# EAGLE library part A4983 (library salvador-parts-imported)
DMOS Microstepping Driver with Translator
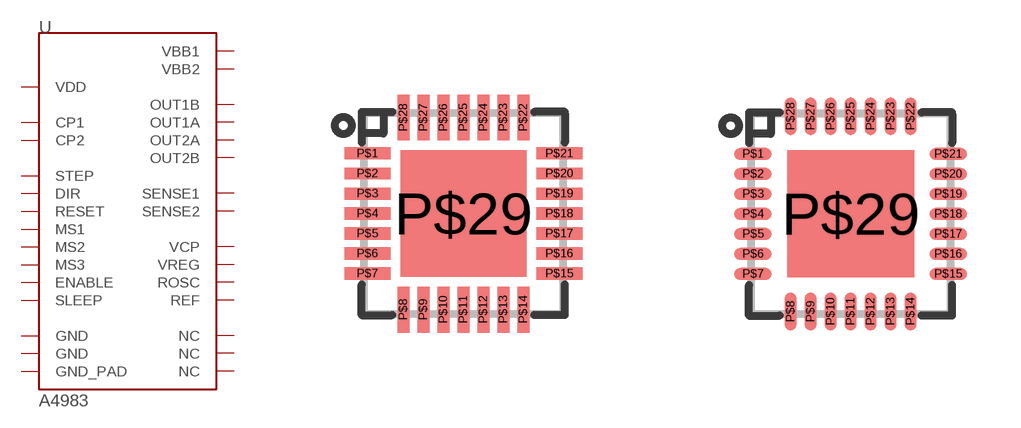
[diagram p43: symbol with the pads of QFN-28-5MM; footprints QFN-28-5MM, QFN-28-5MM_ALT1]

Designator prefix U

## A49835MM  [QFN-28-5MM]
P$1  OUT2B
P$2  ENABLE  in
P$3  GND  pwr
P$4  CP1
P$5  CP2
P$6  VCP
P$7  NC  nc
P$8  VREG
P$9  MS1  in
P$10  MS2  in
P$11  MS3  in
P$12  RESET  in
P$13  ROSC
P$14  SLEEP  in
P$15  VDD  pwr
P$16  STEP  in
P$17  REF
P$18  GND  pwr
P$19  DIR  in
P$20  NC  nc
P$21  OUT1B
P$22  VBB1
P$23  SENSE1
P$24  OUT1A
P$25  NC  nc
P$26  OUT2A
P$27  SENSE2
P$28  VBB2
P$29  GND_PAD  pwr

## A4983ALT1 (PROD_ID: IC-09890)  [QFN-28-5MM_ALT1]
Pads as for QFN-28-5MM

## A4983ALT2  [QFN-28-5MM_ALT2]
Pads as for QFN-28-5MM

## A49831:1  [QFN-28-5MM-1:1]
Pads as for QFN-28-5MM

## A4983ALT1_REDUCED_PASTE (PROD_ID: IC-09890)  [QFN-28-5MM_ALT1_REDUCED_PASTE]
Pads as for QFN-28-5MM

## Footprint QFN-28-5MM (pad centres in mm)
smd 1.15 x 0.3: P$1 -2.4,1.5; P$2 -2.4,1; P$3 -2.4,0.5; P$4 -2.4,0; P$5 -2.4,-0.5; P$6 -2.4,-1; P$7 -2.4,-1.5; P$15 2.4,-1.5; P$16 2.4,-1; P$17 2.4,-0.5; P$18 2.4,0; P$19 2.4,0.5; P$20 2.4,1; P$21 2.4,1.5
smd 0.3 x 1.15: P$8 -1.5,-2.4; P$9 -1,-2.4; P$10 -0.5,-2.4; P$11 0,-2.4; P$12 0.5,-2.4; P$13 1,-2.4; P$14 1.5,-2.4; P$22 1.5,2.4; P$23 1,2.4; P$24 0.5,2.4; P$25 0,2.4; P$26 -0.5,2.4; P$27 -1,2.4; P$28 -1.5,2.4
smd 3.15 x 3.15: P$29 0,0

## Footprint QFN-28-5MM_ALT1 (pad centres in mm)
smd 0.94 x 0.3: P$1 -2.44,1.5; P$2 -2.44,1; P$3 -2.44,0.5; P$4 -2.44,0; P$5 -2.44,-0.5; P$6 -2.44,-1; P$7 -2.44,-1.5; P$15 2.44,-1.5; P$16 2.44,-1; P$17 2.44,-0.5; P$18 2.44,0; P$19 2.44,0.5; P$20 2.44,1; P$21 2.44,1.5
smd 0.3 x 0.94: P$8 -1.5,-2.44; P$9 -1,-2.44; P$10 -0.5,-2.44; P$11 0,-2.44; P$12 0.5,-2.44; P$13 1,-2.44; P$14 1.5,-2.44; P$22 1.5,2.44; P$23 1,2.44; P$24 0.5,2.44; P$25 0,2.44; P$26 -0.5,2.44; P$27 -1,2.44; P$28 -1.5,2.44
smd 3.175 x 3.175: P$29 0,0

## Footprint QFN-28-5MM_ALT2 (pad centres in mm)
smd 0.889 x 0.28: P$1 -2.401,1.5; P$2 -2.401,1; P$3 -2.401,0.5; P$4 -2.401,0; P$5 -2.401,-0.5; P$6 -2.401,-1; P$7 -2.401,-1.5; P$15 2.401,-1.5; P$16 2.401,-1; P$17 2.401,-0.5; P$18 2.401,0; P$19 2.401,0.5; P$20 2.401,1; P$21 2.401,1.5
smd 0.28 x 0.889: P$8 -1.5,-2.401; P$9 -1,-2.401; P$10 -0.5,-2.401; P$11 0,-2.401; P$12 0.5,-2.401; P$13 1,-2.401; P$14 1.5,-2.401; P$22 1.5,2.401; P$23 1,2.401; P$24 0.5,2.401; P$25 0,2.401; P$26 -0.5,2.401; P$27 -1,2.401; P$28 -1.5,2.401
smd 3.048 x 3.048: P$29 0,0

## Footprint QFN-28-5MM-1:1 (pad centres in mm)
smd 1.15 x 0.3: P$1 -2.527,1.5; P$2 -2.527,1; P$3 -2.527,0.5; P$4 -2.527,0; P$5 -2.527,-0.5; P$6 -2.527,-1; P$7 -2.527,-1.5; P$15 2.527,-1.5; P$16 2.527,-1; P$17 2.527,-0.5; P$18 2.527,0; P$19 2.527,0.5; P$20 2.527,1; P$21 2.527,1.5
smd 0.3 x 1.15: P$8 -1.5,-2.527; P$9 -1,-2.527; P$10 -0.5,-2.527; P$11 0,-2.527; P$12 0.5,-2.527; P$13 1,-2.527; P$14 1.5,-2.527; P$22 1.5,2.527; P$23 1,2.527; P$24 0.5,2.527; P$25 0,2.527; P$26 -0.5,2.527; P$27 -1,2.527; P$28 -1.5,2.527
smd 3.15 x 3.15: P$29 0,0

## Footprint QFN-28-5MM_ALT1_REDUCED_PASTE (pad centres in mm)
smd 0.94 x 0.3: P$1 -2.44,1.5; P$2 -2.44,1; P$3 -2.44,0.5; P$4 -2.44,0; P$5 -2.44,-0.5; P$6 -2.44,-1; P$7 -2.44,-1.5; P$15 2.44,-1.5; P$16 2.44,-1; P$17 2.44,-0.5; P$18 2.44,0; P$19 2.44,0.5; P$20 2.44,1; P$21 2.44,1.5
smd 0.3 x 0.94: P$8 -1.5,-2.44; P$9 -1,-2.44; P$10 -0.5,-2.44; P$11 0,-2.44; P$12 0.5,-2.44; P$13 1,-2.44; P$14 1.5,-2.44; P$22 1.5,2.44; P$23 1,2.44; P$24 0.5,2.44; P$25 0,2.44; P$26 -0.5,2.44; P$27 -1,2.44; P$28 -1.5,2.44
smd 3.175 x 3.175: P$29 0,0